# Altium schematic symbol library TS3A27518EIRTWRQ1.Schlib: 1 symbol
Pins are listed as number, name and electrical type; pins without a type are passive.

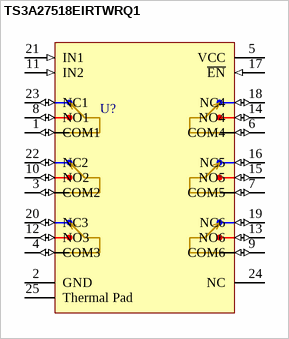
[diagram p0: symbol TS3A27518EIRTWRQ1]

## TS3A27518EIRTWRQ1
designator U?
6-bit1-of-2 multiplexer-demultiplexer
pins: 1 COM1 (io), 2 GND (power), 3 COM2 (io), 4 COM3 (io), 5 VCC (power), 6 COM4 (io), 7 COM5 (io), 8 NO1 (io), 9 COM6 (io), 10 NO2 (io), 11 IN2 (in), 12 NO3 (io), 13 NO6 (io), 14 NO4 (io), 15 NO5 (io), 16 NC5 (io), 17 ~{EN} (in), 18 NC4 (io), 19 NC6 (io), 20 NC3 (io), 21 IN1 (in), 22 NC2 (io), 23 NC1 (io), 24 NC, 25 Thermal Pad (power)